# Altium footprint library BGA42NP40_6X7_291X251X56B26RN.PcbLib: 1 footprints
Each footprint in its own frame and in the unit in brackets; x right, y up, seen from the top. Pads: shape width x height; smd on the part's side, far side on the other; paste and mask are expansions set on the pad; w line width, h text height; cw(c..) or ccw(c..) is an arc to the next point about the centre after c.
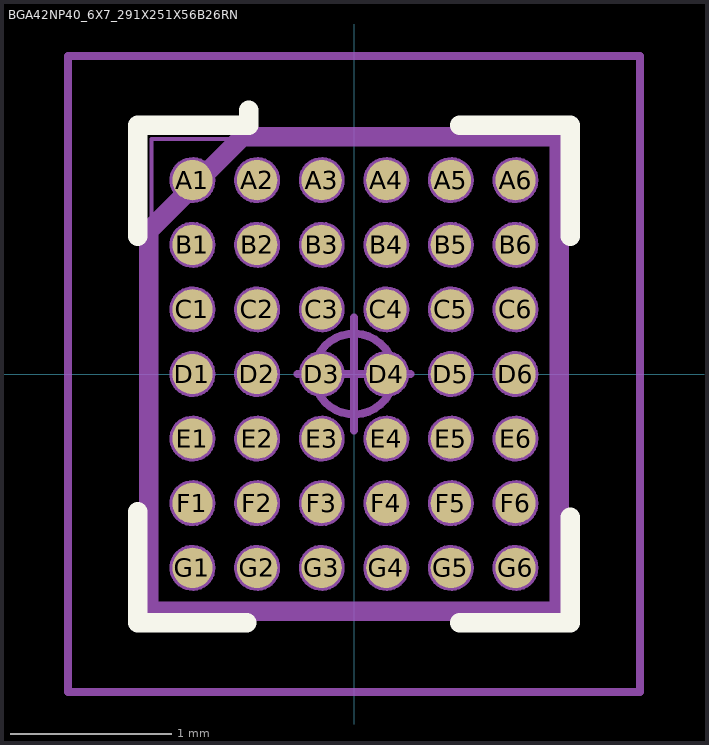
[diagram p0: the footprint, top view; thin cyan lines are the x and y axes]

## BGA42NP40_6X7_291X251X56B26RN [mm] "Ball Grid Array (BGA), 0.40 mm pitch, rect; 42 pin, 2.91 mm L X 2.51 mm W X 0.565 mm H Body"
height 0.565
pads (42):
  round 0.25 smd paste-0.125 mask+0.02: A1(-1,1.2) A2(-0.6,1.2) A3(-0.2,1.2) A4(0.2,1.2) A5(0.6,1.2) A6(1,1.2) B1(-1,0.8) B2(-0.6,0.8) B3(-0.2,0.8) B4(0.2,0.8) B5(0.6,0.8) B6(1,0.8) C1(-1,0.4) C2(-0.6,0.4) C3(-0.2,0.4) C4(0.2,0.4) C5(0.6,0.4) C6(1,0.4) D1(-1,0) D2(-0.6,0) D3(-0.2,0) D4(0.2,0) D5(0.6,0) D6(1,0) E1(-1,-0.4) E2(-0.6,-0.4) E3(-0.2,-0.4) E4(0.2,-0.4) E5(0.6,-0.4) E6(1,-0.4) F1(-1,-0.8) F2(-0.6,-0.8) F3(-0.2,-0.8) F4(0.2,-0.8) F5(0.6,-0.8) F6(1,-0.8) G1(-1,-1.2) G2(-0.6,-1.2) G3(-0.2,-1.2) G4(0.2,-1.2) G5(0.6,-1.2) G6(1,-1.2)
Top Overlay:
  lines w0.12: -1.34,-0.854 -1.34,-1.54 -0.664,-1.54 ; -1.34,0.852 -1.34,1.54 -0.652,1.54 -0.652,1.634 ; 0.653,-1.54 1.34,-1.54 1.34,-0.887 ; 0.653,1.54 1.34,1.54 1.34,0.852
Mechanical 3:
  lines w0.12: -1.27,-1.47 1.27,-1.47 1.27,1.47 -0.689,1.47 -1.27,0.889 -1.27,-1.47
Mechanical 5:
  circle w0.025: c1,1.2 r0.13
  circle w0.025: c0.6,1.2 r0.13
  circle w0.025: c0.2,1.2 r0.13
  circle w0.025: c-0.2,1.2 r0.13
  circle w0.025: c-0.6,1.2 r0.13
  circle w0.025: c-1,1.2 r0.13
  circle w0.025: c1,0.8 r0.13
  circle w0.025: c0.6,0.8 r0.13
  circle w0.025: c0.2,0.8 r0.13
  circle w0.025: c-0.2,0.8 r0.13
  circle w0.025: c-0.6,0.8 r0.13
  circle w0.025: c-1,0.8 r0.13
  circle w0.025: c1,0.4 r0.13
  circle w0.025: c0.6,0.4 r0.13
  circle w0.025: c0.2,0.4 r0.13
  circle w0.025: c-0.2,0.4 r0.13
  circle w0.025: c-0.6,0.4 r0.13
  circle w0.025: c-1,0.4 r0.13
  circle w0.025: c1,0 r0.13
  circle w0.025: c0.6,0 r0.13
  circle w0.025: c0.2,0 r0.13
  circle w0.025: c-0.2,0 r0.13
  circle w0.025: c-0.6,0 r0.13
  circle w0.025: c-1,0 r0.13
  circle w0.025: c1,-0.4 r0.13
  circle w0.025: c0.6,-0.4 r0.13
  circle w0.025: c0.2,-0.4 r0.13
  circle w0.025: c-0.2,-0.4 r0.13
  circle w0.025: c-0.6,-0.4 r0.13
  circle w0.025: c-1,-0.4 r0.13
  circle w0.025: c1,-0.8 r0.13
  circle w0.025: c0.6,-0.8 r0.13
  circle w0.025: c0.2,-0.8 r0.13
  circle w0.025: c-0.2,-0.8 r0.13
  circle w0.025: c-0.6,-0.8 r0.13
  circle w0.025: c-1,-0.8 r0.13
  circle w0.025: c1,-1.2 r0.13
  circle w0.025: c0.6,-1.2 r0.13
  circle w0.025: c0.2,-1.2 r0.13
  circle w0.025: c-0.2,-1.2 r0.13
  circle w0.025: c-0.6,-1.2 r0.13
  circle w0.025: c-1,-1.2 r0.13
  lines w0.025: -1.255,-1.455 1.255,-1.455 1.255,1.455 -1.255,1.455 -1.255,-1.455
Mechanical 7:
  circle w0.05: c0,0 r0.25
  lines w0.05: -0.35,0 0.35,0 ; 0,-0.35 0,0.35 ; -1.77,-1.97 -1.77,1.97 1.77,1.97 1.77,-1.97 -1.77,-1.97
Mechanical 9:
  text "'.Designator'" at -5.817,-0.398 h1.02
3D body "BGA42NP40_6X7_291X251X56B26R.STEP": height 0.57, standoff 0, extent -1.255,-1.455 1.255,1.455
3D body: height 0.56, standoff 0, extent -1.77,-1.97 1.77,1.97